# Altium schematic symbol library Components - 17.03.24 - 18.35.SchLib: 1 symbol
Pins are listed as number, name and electrical type; pins without a type are passive.

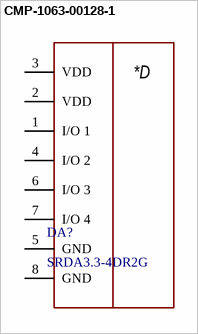
[diagram p0: symbol CMP-1063-00128-1]

## CMP-1063-00128-1
designator DA?, comment SRDA3.3-4DR2G
Low Capacitance Surface Mount TVS for High-Speed Data Interface, 8-Pin SOIC, Pb-Free, Tape and Reel; Manufacturer: On Semiconductor; V(BR) Min (V): 5; PPK Max (W): 500; Number of Lines: 4; VRWM Max (V): 3.3; Direction: Unidirectional; ComponentLink3Description: Package Specification; ComponentLink1Description: Manufacturer URL; ComponentLink1URL: http://www.onsemi.com/; RoHS: Pb-Free; Mounting Technology: Surface Mount; ComponentLink3URL: http://www.onsemi.com/pub_link/Collateral/751-07.PDF; PackageVersion: Rev. AK, 02/2011; ComponentLink2Description: Datasheet; PackageReference: SOIC-8-751-07; PartNumber: SRDA3.3-4DR2G; PackageDescription: 8-Pin Small Outline Integrated Circuit, Body 4.9 x 3.9 mm, Pitch 1.27 mm; Packing: Tape and Reel; ComponentLink2URL: http://www.onsemi.cn/pub_link/Collateral/SRDA3.3-4-D.PDF; DatasheetVersion: Rev. 0; IR Max (uA): 5
footprint ONSC-SOIC-8-751-07_V (SOIC, 8-Leads, Body 4.9x3.9mm, Pitch 1.27mm)
footprint 8-SOIC (pitch 1.27 mm)
pins: 1 I/O 1, 2 VDD, 3 VDD, 4 I/O 2, 5 GND (power), 6 I/O 3, 7 I/O 4, 8 GND (power)
text: *D